# Altium footprint library LegacyDO.PcbLib: 67 footprints (part 2 of 5)
Each footprint in its own frame and in the unit in brackets; x right, y up, seen from the top. Pads: shape width x height; smd on the part's side, far side on the other; paste and mask are expansions set on the pad; w line width, h text height; cw(c..) or ccw(c..) is an arc to the next point about the centre after c.
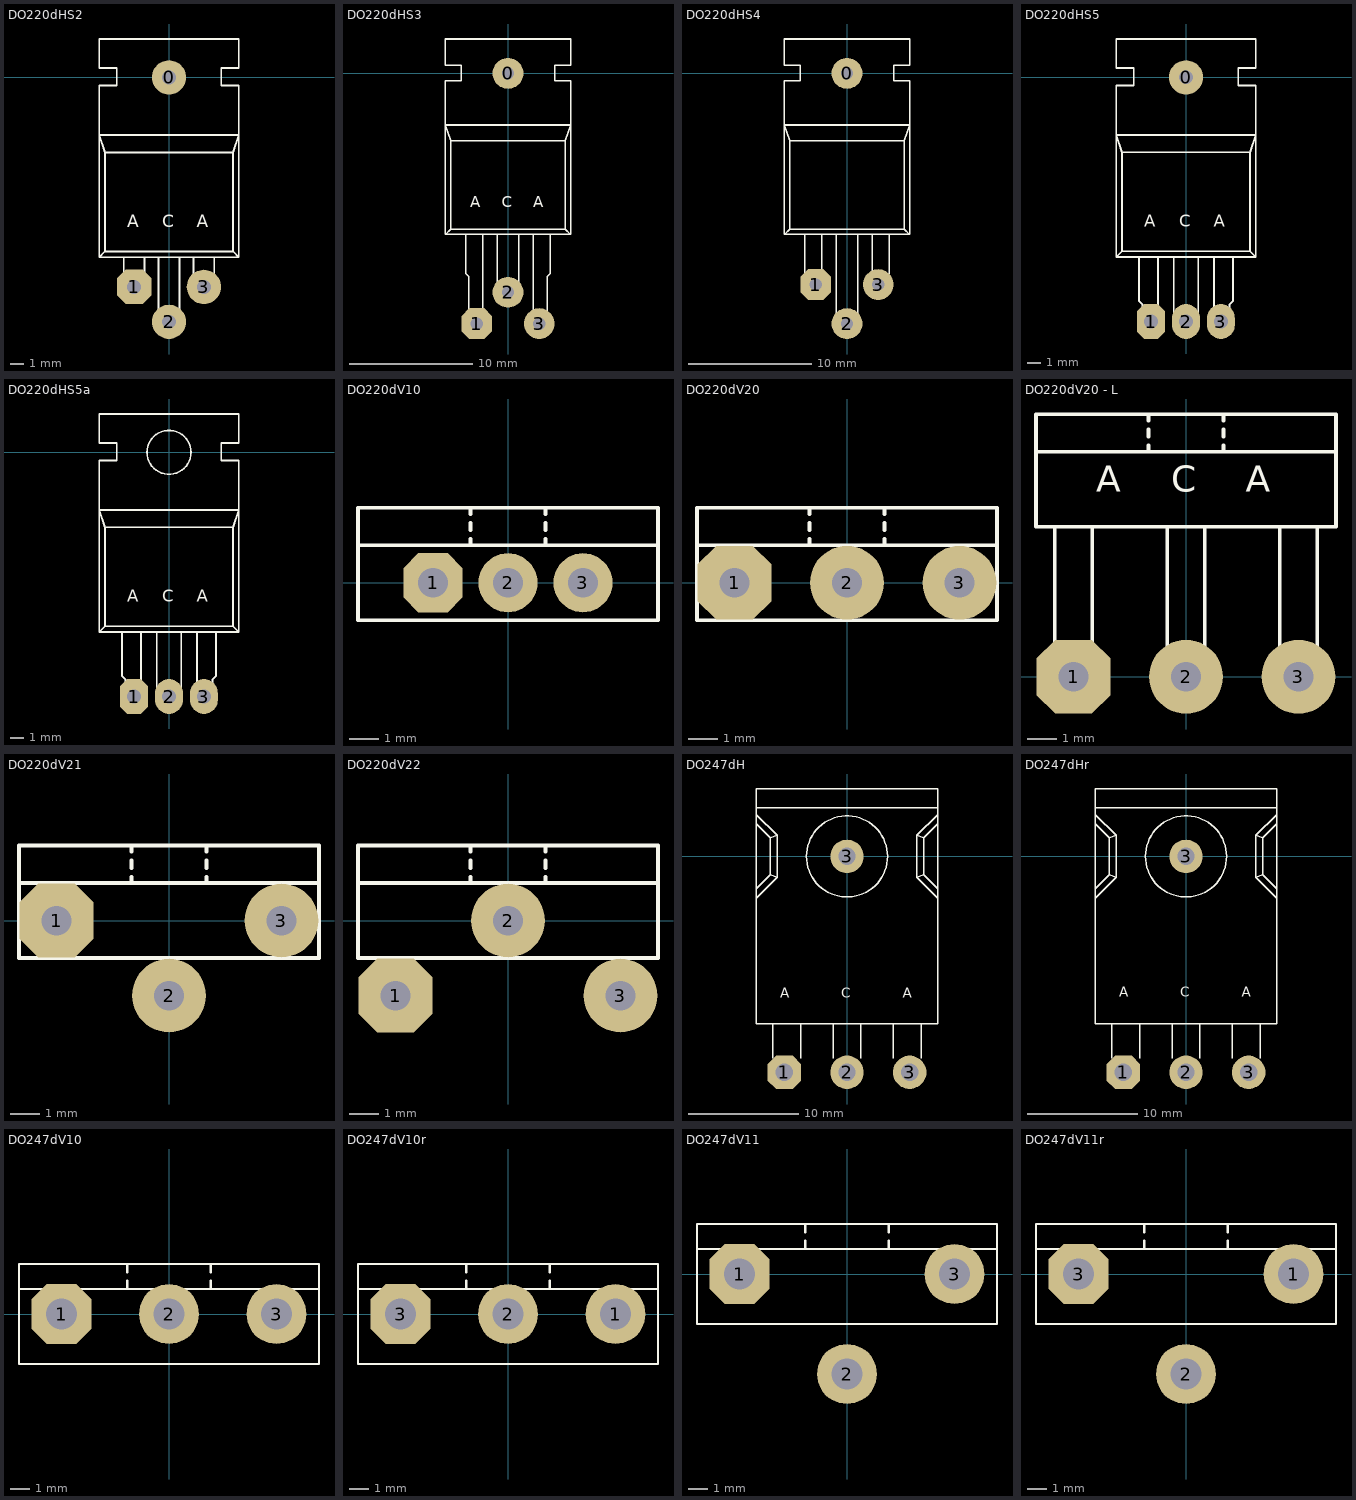
[diagram p1: the footprints below, top view; thin cyan lines are the x and y axes]

## DO220dHS2 [mm]
pads (4):
  round 2.5 hole 1: 0(0,0) 2(0,-17.78) 3(2.54,-15.24)
  oct 2.5x2.5 hole 1: 1(-2.54,-15.24)
Top Overlay:
  lines w0.125: -3.302,-15.24 -3.302,-13.081 ; -1.778,-15.24 -1.778,-13.081 ; -0.762,-17.78 -0.762,-13.081 ; 0.762,-17.78 0.762,-13.081 ; 1.778,-15.24 1.778,-13.081 ; 3.302,-15.24 3.302,-13.081 ; -5.08,-13.081 -4.657,-12.658 ; -5.08,-13.081 5.08,-13.081 ; -5.08,-13.081 -5.08,-0.593 -3.81,-0.593 -3.81,0.677 -5.08,0.677 -5.08,2.794 5.08,2.794 5.08,0.677 3.81,0.677 3.81,-0.593 5.08,-0.593 5.08,-3.133 5.08,-13.081 ; -4.657,-12.658 4.657,-12.658 ; -4.657,-12.658 -4.657,-5.461 ; -4.657,-5.461 4.657,-5.461 ; -4.657,-5.461 -5.08,-4.191 5.08,-4.191 4.657,-5.461 ; 4.657,-12.658 4.657,-5.461 ; 4.657,-12.658 5.08,-13.081
  text "C" at -0.508,-11.176 h1.52
  text "A" at -3.048,-11.176 h1.52
  text "A" at 2.032,-11.176 h1.52

## DO220dHS3 [mm]
pads (4):
  round 2.5 hole 1: 0(0,0) 2(0,-17.78) 3(2.54,-20.32)
  oct 2.5x2.5 hole 1: 1(-2.54,-20.32)
Top Overlay:
  lines w0.125: -3.429,-13.081 -3.429,-16.256 -3.175,-16.51 -3.175,-20.32 -2.032,-20.32 -2.032,-13.081 ; -0.889,-13.081 -0.889,-17.78 0.889,-17.78 0.889,-13.081 ; 2.032,-13.081 2.032,-20.32 3.175,-20.32 3.175,-16.51 3.429,-16.256 3.429,-13.081 ; -5.08,-13.081 -5.08,-0.593 -3.81,-0.593 -3.81,0.677 -5.08,0.677 -5.08,2.794 5.08,2.794 5.08,0.677 3.81,0.677 3.81,-0.593 5.08,-0.593 5.08,-3.133 5.08,-13.081 ; -5.08,-13.081 5.08,-13.081 ; -5.08,-13.081 -4.657,-12.658 ; -4.657,-12.658 -4.657,-5.461 ; -4.657,-12.658 4.657,-12.658 ; -4.657,-5.461 -5.08,-4.191 5.08,-4.191 4.657,-5.461 ; -4.657,-5.461 4.657,-5.461 ; 4.657,-12.658 5.08,-13.081 ; 4.657,-12.658 4.657,-5.461
  text "C" at -0.508,-11.176 h1.52
  text "A" at -3.048,-11.176 h1.52
  text "A" at 2.032,-11.176 h1.52

## DO220dHS4 [mm]
pads (4):
  round 2.5 hole 1: 0(0,0) 2(0,-20.32) 3(2.54,-17.145)
  oct 2.5x2.5 hole 1: 1(-2.54,-17.145)
Top Overlay:
  lines w0.125: -3.429,-13.081 -3.429,-16.256 -3.175,-16.51 -3.175,-17.78 -2.032,-17.78 -2.032,-13.081 ; -0.889,-13.081 -0.889,-20.32 0.889,-20.32 0.889,-13.081 ; 2.032,-13.081 2.032,-17.78 3.175,-17.78 3.175,-16.51 3.429,-16.256 3.429,-13.081 ; -5.08,-13.081 -5.08,-0.593 -3.81,-0.593 -3.81,0.677 -5.08,0.677 -5.08,2.794 5.08,2.794 5.08,0.677 3.81,0.677 3.81,-0.593 5.08,-0.593 5.08,-3.133 5.08,-13.081 ; -5.08,-13.081 5.08,-13.081 ; -5.08,-13.081 -4.657,-12.658 ; -4.657,-12.658 -4.657,-5.461 ; -4.657,-12.658 4.657,-12.658 ; -4.657,-5.461 -5.08,-4.191 5.08,-4.191 4.657,-5.461 ; -4.657,-5.461 4.657,-5.461 ; 4.657,-12.658 5.08,-13.081 ; 4.657,-12.658 4.657,-5.461

## DO220dHS5 [mil]
pads (4):
  round 98.43 hole 39.37: 0(0,0)
  oct 80x100 hole 40: 1(-100,-700)
  oval 80x100 hole 40: 2(0,-700) 3(100,-700)
Top Overlay:
  lines w4.92: -135,-515 -135,-640 -125,-650 -125,-700 -80,-700 -80,-515 ; -35,-515 -35,-700 35,-700 35,-515 ; 80,-515 80,-700 125,-700 125,-650 135,-640 135,-515 ; -200,-515 -200,-23.33 -150,-23.33 -150,26.67 -200,26.67 -200,110 200,110 200,26.67 150,26.67 150,-23.33 200,-23.33 200,-123.33 200,-515 ; -200,-515 200,-515 ; -200,-515 -183.33,-498.33 ; -183.33,-498.33 -183.33,-215 ; -183.33,-498.33 183.33,-498.33 ; -183.33,-215 -200,-165 200,-165 183.33,-215 ; -183.33,-215 183.33,-215 ; 183.33,-498.33 200,-515 ; 183.33,-498.33 183.33,-215
  text "C" at -20,-440 h60
  text "A" at -120,-440 h60
  text "A" at 80,-440 h60

## DO220dHS5a [mil]
pads (3):
  oct 80x100 hole 40: 1(-100,-700)
  oval 80x100 hole 40: 2(0,-700) 3(100,-700)
Top Overlay:
  circle w4.92: c0,0 r62.99
  lines w4.92: -135,-515 -135,-640 -125,-650 -125,-700 -80,-700 -80,-515 ; -35,-515 -35,-700 35,-700 35,-515 ; 80,-515 80,-700 125,-700 125,-650 135,-640 135,-515 ; -200,-515 -183.33,-498.33 ; -200,-515 200,-515 ; -200,-515 -200,-23.33 -150,-23.33 -150,26.67 -200,26.67 -200,110 200,110 200,26.67 150,26.67 150,-23.33 200,-23.33 200,-123.33 200,-515 ; -183.33,-498.33 183.33,-498.33 ; -183.33,-498.33 -183.33,-215 ; -183.33,-215 183.33,-215 ; -183.33,-215 -200,-165 200,-165 183.33,-215 ; 183.33,-498.33 183.33,-215 ; 183.33,-498.33 200,-515
  text "A" at 80,-440 h60
  text "A" at -120,-440 h60
  text "C" at -20,-440 h60

## DO220dV10 [mm]
pads (3):
  oct 2x2 hole 1: 1(-2.54,0)
  round 2 hole 1: 2(0,0) 3(2.54,0)
Top Overlay:
  lines w0.125: -1.27,1.27 -1.27,1.482 ; -1.27,1.778 -1.27,2.032 ; -1.27,2.328 -1.27,2.54 ; 1.27,1.27 1.27,1.482 ; 1.27,1.778 1.27,2.032 ; 1.27,2.328 1.27,2.54 ; -5.08,1.27 -5.08,2.54 5.08,2.54 5.08,1.27 ; -5.08,1.27 -5.08,-1.27 5.08,-1.27 5.08,1.27 ; -5.08,1.27 5.08,1.27

## DO220dV20 [mm]
pads (3):
  oct 2.5x2.5 hole 1: 1(-3.81,0)
  round 2.5 hole 1: 2(0,0) 3(3.81,0)
Top Overlay:
  lines w0.125: -1.27,1.27 -1.27,1.482 ; -1.27,1.778 -1.27,2.032 ; -1.27,2.328 -1.27,2.54 ; 1.27,1.27 1.27,1.482 ; 1.27,1.778 1.27,2.032 ; 1.27,2.328 1.27,2.54 ; -5.08,1.27 -5.08,2.54 5.08,2.54 5.08,1.27 ; -5.08,1.27 -5.08,-1.27 5.08,-1.27 5.08,1.27 ; -5.08,1.27 5.08,1.27

## DO220dV20 - L [mm]
pads (3):
  oct 2.5x2.5 hole 1: 1(-3.81,0)
  round 2.5 hole 1: 2(0,0) 3(3.81,0)
Top Overlay:
  lines w0.125: -4.445,5.08 -4.445,0 -3.175,0 -3.175,5.08 ; -1.27,7.62 -1.27,7.832 ; -1.27,8.128 -1.27,8.382 ; -1.27,8.678 -1.27,8.89 ; -0.635,5.08 -0.635,0 0.635,0 0.635,5.08 ; 1.27,7.62 1.27,7.832 ; 1.27,8.128 1.27,8.382 ; 1.27,8.678 1.27,8.89 ; 3.175,5.08 3.175,0 4.445,0 4.445,5.08 ; -5.08,7.62 5.08,7.62 ; -5.08,7.62 -5.08,5.08 5.08,5.08 5.08,7.62 ; -5.08,7.62 -5.08,8.89 5.08,8.89 5.08,7.62
  text "A" at 2.032,5.969 h1.52
  text "A" at -3.048,5.969 h1.52
  text "C" at -0.508,5.969 h1.52

## DO220dV21 [mm]
pads (3):
  oct 2.5x2.5 hole 1: 1(-3.81,0)
  round 2.5 hole 1: 2(0,-2.54) 3(3.81,0)
Top Overlay:
  lines w0.125: -1.27,1.27 -1.27,1.482 ; -1.27,1.778 -1.27,2.032 ; -1.27,2.328 -1.27,2.54 ; 1.27,1.27 1.27,1.482 ; 1.27,1.778 1.27,2.032 ; 1.27,2.328 1.27,2.54 ; -5.08,1.27 -5.08,2.54 5.08,2.54 5.08,1.27 ; -5.08,1.27 -5.08,-1.27 5.08,-1.27 5.08,1.27 ; -5.08,1.27 5.08,1.27

## DO220dV22 [mm]
pads (3):
  oct 2.5x2.5 hole 1: 1(-3.81,-2.54)
  round 2.5 hole 1: 2(0,0) 3(3.81,-2.54)
Top Overlay:
  lines w0.125: -1.27,1.27 -1.27,1.482 ; -1.27,1.778 -1.27,2.032 ; -1.27,2.328 -1.27,2.54 ; 1.27,1.27 1.27,1.482 ; 1.27,1.778 1.27,2.032 ; 1.27,2.328 1.27,2.54 ; -5.08,1.27 -5.08,2.54 5.08,2.54 5.08,1.27 ; -5.08,1.27 -5.08,-1.27 5.08,-1.27 5.08,1.27 ; -5.08,1.27 5.08,1.27

## DO247dH [mil]
pads (4):
  oct 120x120 hole 62: 1(-225,-775)
  round 120 hole 62: 2(0,-775) 3(0,0) 3(225,-775)
Top Overlay:
  circle w4.92: c0,0 r145.6
  lines w4.92: -325,-150 -250,-75 ; -325,-116.67 -275,-66.67 ; -325,116.67 -275,66.67 ; -325,150 -250,75 ; -325,175 325,175 ; -266.67,-725 -266.67,-600 ; -166.67,-725 -166.67,-600 ; -50,-725 -50,-600 ; 50,-725 50,-600 ; 166.67,-725 166.67,-600 ; 266.67,-725 266.67,-600 ; 325,-150 250,-75 ; 325,-116.67 275,-66.67 ; 325,116.67 275,66.67 ; 325,150 250,75 ; -275,-66.67 -275,66.67 ; -275,-66.67 -250,-75 ; -275,66.67 -250,75 ; -250,-75 -250,75 ; 250,-75 250,75 ; 250,-75 275,-66.67 ; 250,75 275,66.67 ; 275,-66.67 275,66.67 ; -325,-600 325,-600 325,241.67 -325,241.67 -325,-600
  text "A" at 200,-520 h60
  text "A" at -240,-520 h60
  text "C" at -20,-520 h60
3D body "TO-247H.STEP": height 192.91, standoff -275.59, extent -305.12,-783.47 305.11,216.53

## DO247dHr [mil]
pads (4):
  oct 120x120 hole 62: 1(-225,-775)
  round 120 hole 62: 2(0,-775) 3(0,0) 3(225,-775)
Top Overlay:
  circle w4.92: c0,0 r145.6
  lines w4.92: -325,-150 -250,-75 ; -325,-116.67 -275,-66.67 ; -325,116.67 -275,66.67 ; -325,150 -250,75 ; -325,175 325,175 ; -266.67,-725 -266.67,-600 ; -166.67,-725 -166.67,-600 ; -50,-725 -50,-600 ; 50,-725 50,-600 ; 166.67,-725 166.67,-600 ; 266.67,-725 266.67,-600 ; 325,-150 250,-75 ; 325,-116.67 275,-66.67 ; 325,116.67 275,66.67 ; 325,150 250,75 ; -275,-66.67 -250,-75 ; -275,-66.67 -275,66.67 ; -275,66.67 -250,75 ; -250,-75 -250,75 ; 250,-75 275,-66.67 ; 250,-75 250,75 ; 250,75 275,66.67 ; 275,-66.67 275,66.67 ; -325,-600 -325,241.67 325,241.67 325,-600 -325,-600
  text "A" at 200,-516.66 h60
  text "A" at -240,-516.66 h60
  text "C" at -20,-516.66 h60
3D body "TO-247H.STEP": height 192.91, standoff -275.59, extent -305.11,-783.46 305.12,216.54

## DO247dV10 [mil]
pads (3):
  oct 120x120 hole 62: 1(-215,0)
  round 120 hole 62: 2(0,0) 3(215,0)
Top Overlay:
  lines w4.92: -300,50 300,50 ; -83.33,50 -83.33,66.67 ; -83.33,83.33 -83.33,100 ; 83.33,50 83.33,66.67 ; 83.33,83.33 83.33,100 ; -300,-100 300,-100 300,100 -300,100 -300,-100
3D body "TO247-10.STEP": height 1034.65, standoff -169.29, extent -314.95,-104.72 314.97,92.13

## DO247dV10r [mil]
pads (3):
  round 120 hole 62: 1(215,0) 2(0,0)
  oct 120x120 hole 62: 3(-215,0)
Top Overlay:
  lines w4.92: -300,50 300,50 ; -83.33,50 -83.33,66.67 ; -83.33,83.33 -83.33,100 ; 83.33,50 83.33,66.67 ; 83.33,83.33 83.33,100 ; -300,-100 300,-100 300,100 -300,100 -300,-100
3D body "TO247-10.STEP": height 1034.65, standoff -169.29, extent -314.95,-104.72 314.97,92.13

## DO247dV11 [mil]
pads (3):
  oct 120x120 hole 62: 1(-215,0)
  round 120 hole 62: 2(0,-200) 3(215,0)
Top Overlay:
  lines w4.92: -300,50 300,50 ; -83.33,50 -83.33,66.67 ; -83.33,83.33 -83.33,100 ; 83.33,50 83.33,66.67 ; 83.33,83.33 83.33,100 ; -300,-100 -300,100 300,100 300,-100 -300,-100

## DO247dV11r [mil]
pads (3):
  round 120 hole 62: 1(215,0) 2(0,-200)
  oct 120x120 hole 62: 3(-215,0)
Top Overlay:
  lines w4.92: -300,50 300,50 ; -83.33,50 -83.33,66.67 ; -83.33,83.33 -83.33,100 ; 83.33,50 83.33,66.67 ; 83.33,83.33 83.33,100 ; -300,-100 300,-100 300,100 -300,100 -300,-100